# EAGLE library part MM74HC02M (library Fairchild_By_element14_Batch_1)
Quad 2-Input NOR Gate
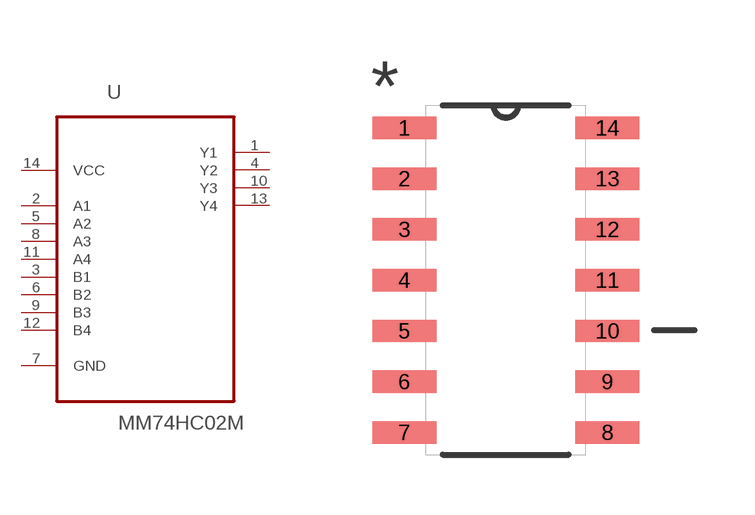
[diagram p231: symbol with the pads of SOIC127P600X175-14N; footprint SOIC127P600X175-14N]

Designator prefix U

## MM74HC02M (MPN: MM74HC02M; OC_FARNELL: 1013954; OC_NEWARK: 84K2981; PACKAGE: SOIC-14; SUPPLIER: Fairchild)  [SOIC127P600X175-14N]
1  Y1  out
2  A1  in
3  B1  in
4  Y2  out
5  A2  in
6  B2  in
7  GND  pas
8  A3  in
9  B3  in
10  Y3  out
11  A4  in
12  B4  in
13  Y4  out
14  VCC  pwr

## Footprint SOIC127P600X175-14N (pad centres in mm)
smd 1.6 x 0.559: 1 -2.54,3.81; 2 -2.54,2.54; 3 -2.54,1.27; 4 -2.54,0; 5 -2.54,-1.27; 6 -2.54,-2.54; 7 -2.54,-3.81; 8 2.54,-3.81; 9 2.54,-2.54; 10 2.54,-1.27; 11 2.54,0; 12 2.54,1.27; 13 2.54,2.54; 14 2.54,3.81